# EAGLE library part SAMTEC_SSW106-22-F-D (library Traficon)
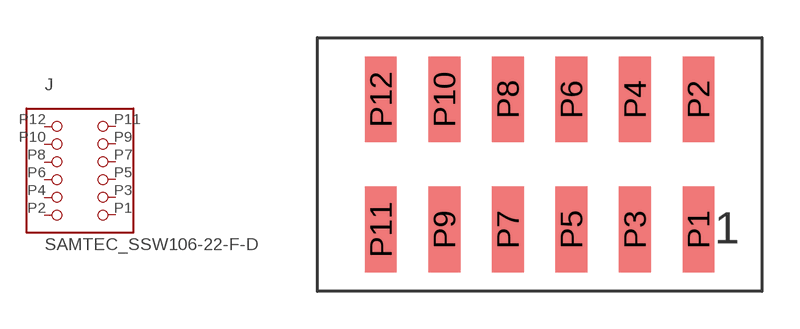
[diagram p209: symbol with the pads of 2.54MMHEAD_SMD_2X6; footprint 2.54MMHEAD_SMD_2X6]

Designator prefix J

## SAMTEC_SSW106-22-F-D  [2.54MMHEAD_SMD_2X6]
P1  1  pas
P2  2  pas
P3  3  pas
P4  4  pas
P5  5  pas
P6  6  pas
P7  7  pas
P8  8  pas
P9  9  pas
P10  10  pas
P11  11  pas
P12  12  pas

## Footprint 2.54MMHEAD_SMD_2X6 (pad centres in mm)
smd 1.27 x 3.43: P1 6.35,-2.605; P2 6.35,2.605; P3 3.81,-2.605; P4 3.81,2.605; P5 1.27,-2.605; P6 1.27,2.605; P7 -1.27,-2.605; P8 -1.27,2.605; P9 -3.81,-2.605; P10 -3.81,2.605; P11 -6.35,-2.605; P12 -6.35,2.605